# EAGLE library part 54050C (library murata)
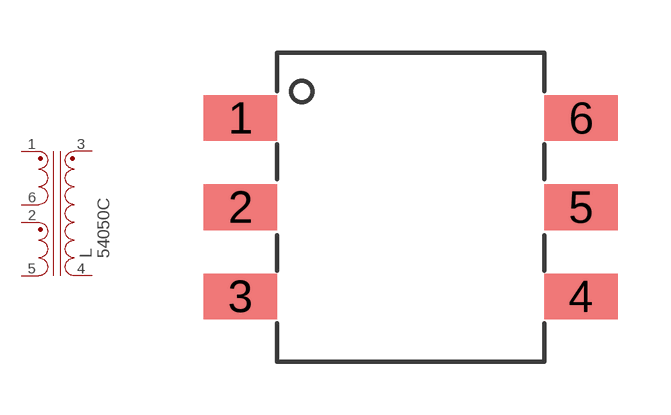
[diagram p0: symbol with the pads of GULLWING; footprint GULLWING]

Designator prefix L

## 54050C (DIGIKEY: 811-1197-1-ND; P1I: o)  [GULLWING]
1  P1
2  P3
3  S1
4  S2
5  P4
6  P2

## Footprint GULLWING (pad centres in mm)
smd 2.1 x 1.3: 1 -4.85,2.54; 2 -4.85,0; 3 -4.85,-2.54; 4 4.85,-2.54; 5 4.85,0; 6 4.85,2.54